# EAGLE library part VH396 (library 396_conn)
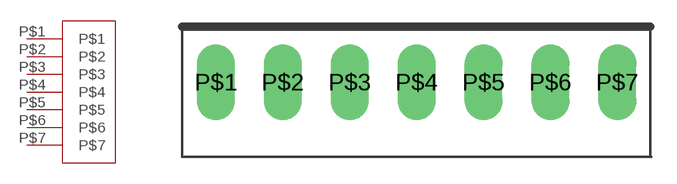
[diagram p6: symbol with the pads of 396_7P; footprint 396_7P]

Designator prefix -

## VH396  [396_7P]
P$1  P$1
P$2  P$2
P$3  P$3
P$4  P$4
P$5  P$5
P$6  P$6
P$7  P$7

## Footprint 396_7P (pad centres in mm)
drill 1.5 long: P$1 -11.88,0; P$2 -7.92,0; P$3 -3.96,0; P$4 0,0; P$5 3.96,0; P$6 7.92,0; P$7 11.88,0